# Altium footprint library Resistor_SMD.PcbLib: 5 footprints
Each footprint in its own frame and in the unit in brackets; x right, y up, seen from the top. Pads: shape width x height; smd on the part's side, far side on the other; paste and mask are expansions set on the pad; w line width, h text height; cw(c..) or ccw(c..) is an arc to the next point about the centre after c.
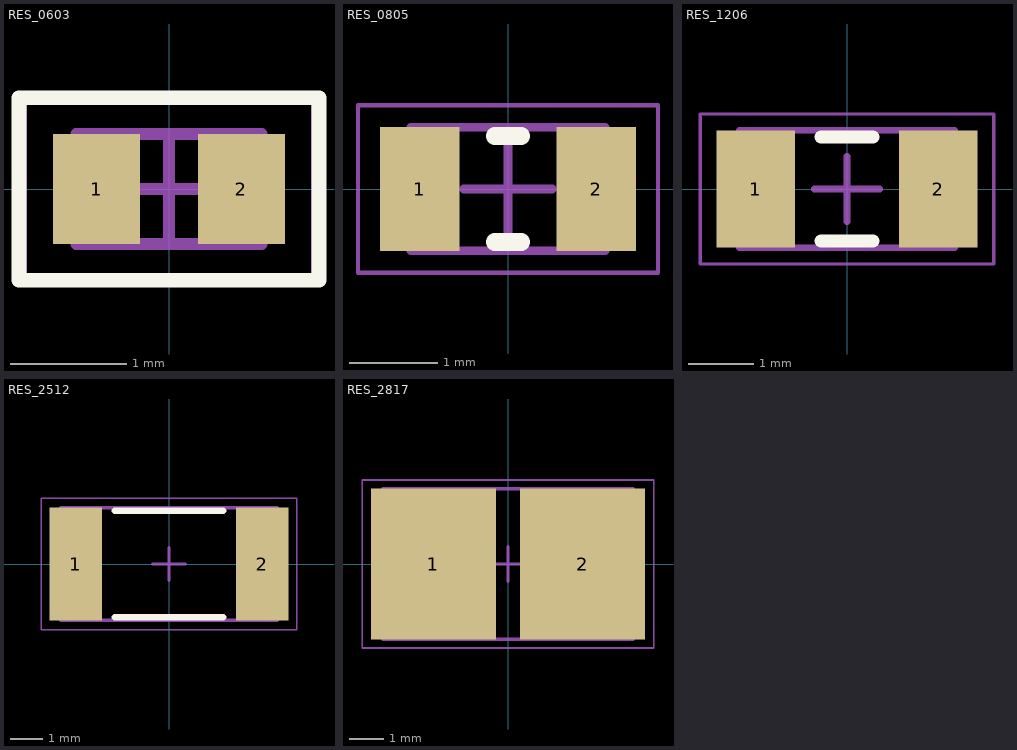
[diagram p0: the footprints below, top view; thin cyan lines are the x and y axes]

## RES_0603 [mm] "Chip Resistor, 2-Leads, Body 1.55x0.85mm, IPC Medium Density"
height 0.5
pads (2):
  rect 0.75x0.95 smd: 1(-0.625,0) 2(0.625,0)
Top Overlay:
  lines w0.127: -1.295,-0.787 1.295,-0.787 1.295,0.787 -1.295,0.787 -1.295,-0.787
Top Courtyard:
  lines w0.05: -1.25,-0.75 1.25,-0.75 1.25,0.75 -1.25,0.75 -1.25,-0.75
  lines w0.1: -0.475,0 0.475,0 ; 0,-0.475 0,0.475
Top Designator:
  text ".Designator" at -5.998,-0.4 h1.2
Mechanical 13:
  lines w0.1: -0.8,-0.475 0.8,-0.475 0.8,0.475 -0.8,0.475 -0.8,-0.475
3D body "RESC1608X05N.step": height 0.5, standoff 0, extent -0.8,-0.475 0.8,0.475

## RES_0805 [mm] "Chip Resistor, 2-Leads, Body 2.05x1.25mm, IPC Medium Density"
height 0.5
pads (2):
  rect 0.9x1.4 smd: 1(-1,0) 2(1,0)
Top Overlay:
  lines w0.2: -0.15,-0.6 0.15,-0.6 ; -0.15,0.6 0.15,0.6
Top Designator:
  text ".Designator" at -5.998,-0.4 h1.2
Mechanical 13:
  lines w0.1: -1.1,-0.7 1.1,-0.7 1.1,0.7 -1.1,0.7 -1.1,-0.7
Mechanical 15:
  lines w0.05: -1.7,-0.95 -1.7,0.95 1.7,0.95 1.7,-0.95 -1.7,-0.95
  lines w0.1: -0.5,0 0.5,0 ; 0,-0.5 0,0.5
3D body "RESC2012X05N.step": height 0.5, standoff 0, extent -1.1,-0.7 1.1,0.7

## RES_1206 [mm] "Chip Resistor, 2-Leads, Body 3.15x1.65mm, IPC Medium Density"
height 0.6
pads (2):
  rect 1.2x1.8 smd: 1(-1.4,0) 2(1.4,0)
Top Overlay:
  lines w0.2: -0.4,-0.8 0.4,-0.8 ; -0.4,0.8 0.4,0.8
Top Designator:
  text ".Designator" at -5.998,-0.4 h1.2
Mechanical 13:
  lines w0.1: -1.65,-0.9 -1.65,0.9 1.65,0.9 1.65,-0.9 -1.65,-0.9
Mechanical 15:
  lines w0.05: -2.25,-1.15 -2.25,1.15 2.25,1.15 2.25,-1.15 -2.25,-1.15
  lines w0.1: -0.5,0 0.5,0 ; 0,-0.5 0,0.5
3D body "RESC3216X06N.step": height 0.6, standoff 0, extent -1.65,-0.9 1.65,0.9

## RES_2512 [mm] "Chip Resistor, 2-Leads, Body 6.35x3.18mm, IPC Medium Density"
height 0.85
pads (2):
  rect 1.6x3.45 smd: 1(-2.85,0) 2(2.85,0)
Top Overlay:
  lines w0.2: -1.65,-1.625 1.65,-1.625 ; -1.65,1.625 1.65,1.625
Top Designator:
  text ".Designator" at -5.998,-0.4 h1.2
Mechanical 13:
  lines w0.1: -3.3,-1.715 3.3,-1.715 3.3,1.715 -3.3,1.715 -3.3,-1.715
Mechanical 15:
  lines w0.05: -3.9,-2 3.9,-2 3.9,2 -3.9,2 -3.9,-2
  lines w0.1: -0.5,0 0.5,0 ; 0,-0.5 0,0.5
3D body "RESC6432X08N.step": height 0.85, standoff 0, extent -3.3,-1.715 3.3,1.715

## RES_2817 [mm] "Chip Resistor, 2-Leads, Body 7.10x4.20mm, IPC Medium Density"
height 1
pads (2):
  rect 3.65x4.4 smd: 1(-2.175,0) 2(2.175,0)
Top Designator:
  text ".Designator" at -5.998,-0.4 h1.2
Mechanical 13:
  lines w0.1: -3.65,-2.2 3.65,-2.2 3.65,2.2 -3.65,2.2 -3.65,-2.2
Mechanical 15:
  lines w0.05: -4.25,-2.45 4.25,-2.45 4.25,2.45 -4.25,2.45 -4.25,-2.45
  lines w0.1: -0.5,0 0.5,0 ; 0,-0.5 0,0.5
3D body "RESC7142X10N.step": height 1, standoff 0, extent -3.65,-2.2 3.65,2.2